# Altium schematic symbol library S7221-45R.SchLib: 1 symbol
Pins are listed as number, name and electrical type; pins without a type are passive.

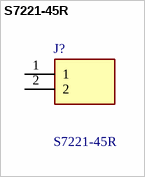
[diagram p0: symbol S7221-45R]

## S7221-45R
designator J?
EMI Gaskets, Sheets, Absorbers & Shielding EMC Spring Contact 1.23mm high; Manufacturer_Name: Harwin; Mouser Part Number: 855-S7221-45R; Mouser Price/Stock: https://www.mouser.co.uk/ProductDetail/Harwin/S7221-45R?qs=pffCcXpkxLxI%252B2oy4ryQHw%3D%3D; Manufacturer_Part_Number: S7221-45R; Datasheet Link: https://cdn.harwin.com/pdfs/S7221-45R.pdf; Geometry.Height: 1.23mm
footprint S722145R
pins: 1, 2